# EAGLE library part 61003421821 (library Eagle_BOARD-TO-BOARD_CONNECTORS (rev18b))
WR-PHD 2.54mm SMT Socket Header=>Code : Con_BTB_SHD_2.54_1_SMT_610x0421821(packageing:x = 0: Tube x = 3: Tape & Reel with Cap; 600 pcs/Reel) <http://katalog.we-online.de/media/images/eican/Con_BTB_SHD_2.54_1_SMT_6100xx21821_pf2.jpg> 6100xx21821 Details see: http://katalog.we-online.de/en/em/PHD_2_54_SMT_DUAL_SOCKET_HEADER_6100XX21821 6103xx21821 2014 (C) Würth Elektronik
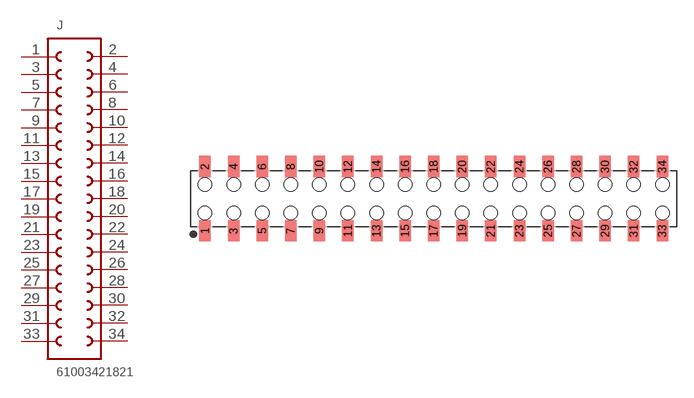
[diagram p215: symbol with the pads of 61003421821; footprint 61003421821]

Designator prefix J

## 61003421821  [61003421821]
1  1  pas
2  34  pas
3  2  pas
4  33  pas
5  3  pas
6  32  pas
7  4  pas
8  31  pas
9  5  pas
10  30  pas
11  6  pas
12  29  pas
13  7  pas
14  28  pas
15  8  pas
16  27  pas
17  9  pas
18  26  pas
19  10  pas
20  25  pas
21  11  pas
22  24  pas
23  12  pas
24  23  pas
25  13  pas
26  22  pas
27  14  pas
28  21  pas
29  15  pas
30  20  pas
31  16  pas
32  19  pas
33  17  pas
34  18  pas

## Footprint 61003421821 (pad centres in mm)
WR-PHD 2.54mm Dual SMT Socket Header, 34 Pins
smd 1.02 x 1.9: 1 -20.32,-2.85; 2 -20.32,2.85; 3 -17.78,-2.85; 4 -17.78,2.85; 5 -15.24,-2.85; 6 -15.24,2.85; 7 -12.7,-2.85; 8 -12.7,2.85; 9 -10.16,-2.85; 10 -10.16,2.85; 11 -7.62,-2.85; 12 -7.62,2.85; 13 -5.08,-2.85; 14 -5.08,2.85; 15 -2.54,-2.85; 16 -2.54,2.85; 17 0,-2.85; 18 0,2.85; 19 2.54,-2.85; 20 2.54,2.85; 21 5.08,-2.85; 22 5.08,2.85; 23 7.62,-2.85; 24 7.62,2.85; 25 10.16,-2.85; 26 10.16,2.85; 27 12.7,-2.85; 28 12.7,2.85; 29 15.24,-2.85; 30 15.24,2.85; 31 17.78,-2.85; 32 17.78,2.85; 33 20.32,-2.85; 34 20.32,2.85
hole 1.2 at -20.32,-1.27
hole 1.2 at -17.78,-1.27
hole 1.2 at -17.78,1.27
hole 1.2 at -20.32,1.27
hole 1.2 at -15.24,-1.27
hole 1.2 at -15.24,1.27
hole 1.2 at -12.7,1.27
hole 1.2 at -12.7,-1.27
hole 1.2 at -10.16,-1.27
hole 1.2 at -10.16,1.27
hole 1.2 at -7.62,-1.27
hole 1.2 at -7.62,1.27
hole 1.2 at -5.08,1.27
hole 1.2 at -5.08,-1.27
hole 1.2 at -2.54,1.27
hole 1.2 at -2.54,-1.27
hole 1.2 at 0,-1.27
hole 1.2 at 0,1.27
hole 1.2 at 2.54,-1.27
hole 1.2 at 2.54,1.27
hole 1.2 at 5.08,1.27
hole 1.2 at 5.08,-1.27
hole 1.2 at 7.62,-1.27
hole 1.2 at 7.62,1.27
hole 1.2 at 10.16,-1.27
hole 1.2 at 10.16,1.27
hole 1.2 at 12.7,-1.27
hole 1.2 at 12.7,1.27
hole 1.2 at 15.24,-1.27
hole 1.2 at 15.24,1.27
hole 1.2 at 17.78,1.27
hole 1.2 at 17.78,-1.27
hole 1.2 at 20.32,1.27
hole 1.2 at 20.32,-1.27